# EAGLE library part CONN_05X2-PINHEAD-SMD (library fab_new)
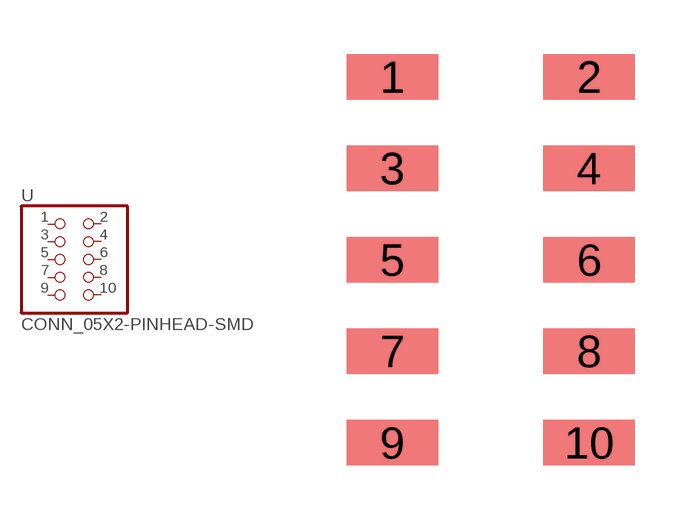
[diagram p10: symbol with the pads of 2X05SMD; footprint 2X05SMD]

Designator prefix -

## CONN_05X2-PINHEAD-SMD  [2X05SMD]
1  1  pas
2  2  pas
3  3  pas
4  4  pas
5  5  pas
6  6  pas
7  7  pas
8  8  pas
9  9  pas
10  10  pas

## Footprint 2X05SMD (pad centres in mm)
smd 2.54 x 1.27: 1 -2.54,2.54; 2 2.92,2.54; 3 -2.54,0; 4 2.92,0; 5 -2.54,-2.54; 6 2.92,-2.54; 7 -2.54,-5.08; 8 2.92,-5.08; 9 -2.54,-7.62; 10 2.92,-7.62